# Altium integrated library WS-ROTV THT Rotary Switch 7 x 7 mm.IntLib: 4 symbols
Pins are listed as number, name and electrical type; pins without a type are passive.

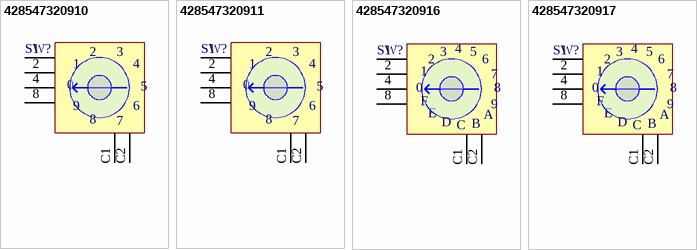
[diagram p0: symbols 428547320910 to 428547320917]

## 428547320910
designator SW?
WS-ROTV THT Rotary Switch 7 x 7 mm; PartNumber: 428547320910; NoPins: 06; PackageReference: 428547320910; ComponentLink1Description: Manufacturer URL; ComponentLink1URL: http://www.we-online.com; ComponentLink2Description: Datasheet; ComponentLink2URL: http://katalog.we-online.de/em/datasheet/428547320910.pdf
footprint 428547320910 (7*7mm, 10 position, 2.54mm, horizontal type, THT, Round  Arrow type, red actuator, real code, Tube)
pins: 1, 2, 4, 8, C1, C2
text: 3; 0; 5; 9; 6; 7

## 428547320911
designator SW?
WS-ROTV THT Rotary Switch 7 x 7 mm; PartNumber: 428547320911; NoPins: 06; PackageReference: 428547320911; ComponentLink1Description: Manufacturer URL; ComponentLink1URL: http://www.we-online.com; ComponentLink2Description: Datasheet; ComponentLink2URL: http://katalog.we-online.de/em/datasheet/428547320911.pdf
footprint 428547320911 (7*7mm, 10 position, 2.54mm, horizontal type, THT, Round  Arrow type, orange actuator, complement code, Tube)
pins: 1, 2, 4, 8, C1, C2
text: 3; 0; 5; 9; 6; 7

## 428547320916
designator SW?
WS-ROTV THT Rotary Switch 7 x 7 mm; PartNumber: 428547320916; NoPins: 06; PackageReference: 428547320916; ComponentLink1Description: Manufacturer URL; ComponentLink1URL: http://www.we-online.com; ComponentLink2Description: Datasheet; ComponentLink2URL: http://katalog.we-online.de/em/datasheet/428547320916.pdf
footprint 428547320916 (7*7mm, 16 position, 2.54mm, horizontal type, THT, Round  Arrow type, light grey actuator, real code, Tube)
pins: 1, 2, 4, 8, C1, C2
text: 3; 5; 6; 7; 0; F; 9; E; A; D; C; B

## 428547320917
designator SW?
WS-ROTV THT Rotary Switch 7 x 7 mm; PartNumber: 428547320917; NoPins: 06; PackageReference: 428547320917; ComponentLink1Description: Manufacturer URL; ComponentLink1URL: http://www.we-online.com; ComponentLink2Description: Datasheet; ComponentLink2URL: http://katalog.we-online.de/em/datasheet/428547320917.pdf
footprint 428547320917 (7*7mm, 16 position, 2.54mm, horizontal type, THT, Round  Arrow type, ivory actuator, complement code, Tube)
pins: 1, 2, 4, 8, C1, C2
text: 3; 5; 6; 7; 0; F; 9; E; A; D; C; B